# Altium schematic symbol library Encoder1.SchLib: 1 symbol
Pins are listed as number, name and electrical type; pins without a type are passive.

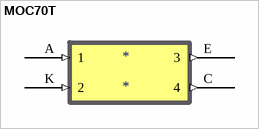
[diagram p0: symbol MOC70T]

## MOC70T
designator *
footprint DIP4 - duplicate; pin to pad A>1 C>3 E>4 K>2
pins: A 1 (in), C 4 (out), E 3 (out), K 2 (in)